# EAGLE library part 15EDGRC-3.81-19P (library con-degson)
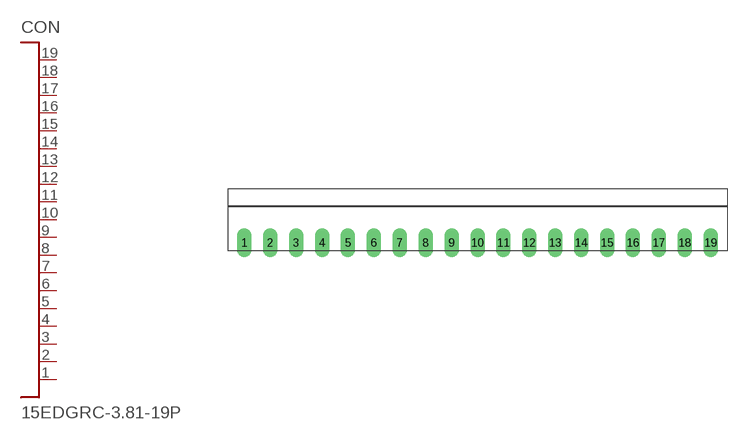
[diagram p36: symbol with the pads of 15EDGRC-3.81-19P; footprint 15EDGRC-3.81-19P]

Designator prefix CON

## 15EDGRC-3.81-19P  [15EDGRC-3.81-19P]
1  P$1
2  P$2
3  P$3
4  P$4
5  P$5
6  P$6
7  P$7
8  P$8
9  P$9
10  P$10
11  P$11
12  P$12
13  P$13
14  P$14
15  P$15
16  P$16
17  P$17
18  P$18
19  P$19

## Footprint 15EDGRC-3.81-19P (pad centres in mm)
drill 1.4 long: 1 -34.29,0; 2 -30.48,0; 3 -26.67,0; 4 -22.86,0; 5 -19.05,0; 6 -15.24,0; 7 -11.43,0; 8 -7.62,0; 9 -3.81,0; 10 0,0; 11 3.81,0; 12 7.62,0; 13 11.43,0; 14 15.24,0; 15 19.05,0; 16 22.86,0; 17 26.67,0; 18 30.48,0; 19 34.29,0